# Altium footprint library Connectors.PcbLib: 1 footprints
Each footprint in its own frame and in the unit in brackets; x right, y up, seen from the top. Pads: shape width x height; smd on the part's side, far side on the other; paste and mask are expansions set on the pad; w line width, h text height; cw(c..) or ccw(c..) is an arc to the next point about the centre after c.
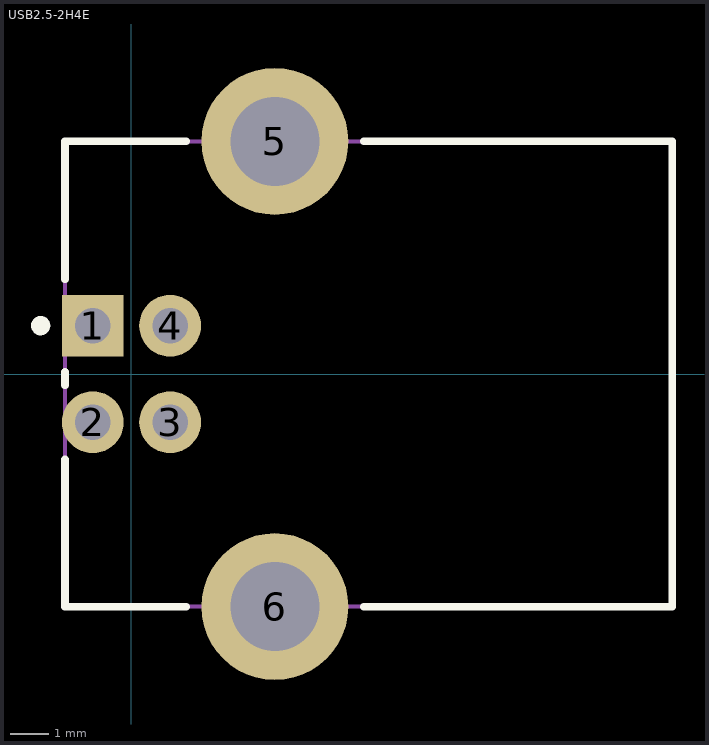
[diagram p0: the footprint, top view; thin cyan lines are the x and y axes]

## USB2.5-2H4E [mm] "Connector; USB1.1, Type B, Thru-Hole; 4 Position; Right Angle"
height 11.5
pads (6):
  rect 1.6x1.6 hole 0.92: 1(-1,1.25)
  round 1.6 hole 0.92: 2(-1,-1.25) 3(1,-1.25) 4(1,1.25)
  round 3.8 hole 2.3: 5(3.71,6.02) 6(3.71,-6.02)
Top Overlay:
  circle w0.25: c-2.35,1.25 r0.125
  lines w0.2: -1.72,-2.21 -1.72,-6.02 1.41,-6.02 ; -1.72,-0.29 -1.72,0.05 ; -1.72,2.45 -1.72,6.02 1.41,6.02 ; 6.01,-6.02 13.99,-6.02 13.99,6.02 6.01,6.02
Mechanical 13:
  lines w0.1: -1.72,-6.02 -1.72,6.02 13.99,6.02 13.99,-6.02 -1.72,-6.02
3D body "670688010.stp": height 10.9, standoff -2.9, extent -3.03,-6 13.97,6